# EAGLE library part NODEMCU-LOLIN-V3 (library NodeMCU v3 LOLIN)
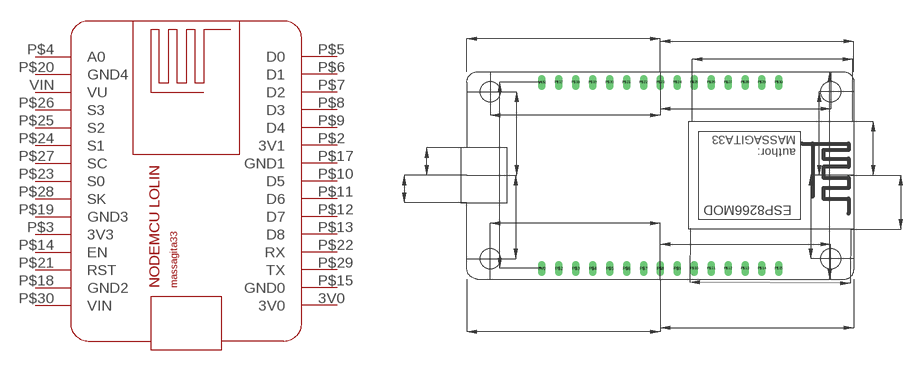
[diagram p0: symbol with the pads of NODEMCU-LOLIN-V3; footprint NODEMCU-LOLIN-V3]

Designator prefix -

## NODEMCU-LOLIN-V3  [NODEMCU-LOLIN-V3]
3V0  3V0
P$2  3V1
P$3  3V3
P$4  A0
P$5  D0
P$6  D1
P$7  D2
P$8  D3
P$9  D4
P$10  D5
P$11  D6
P$12  D7
P$13  D8
P$14  EN
P$15  GND0
P$17  GND1
P$18  GND2
P$19  GND3
P$20  GND4
P$21  RST
P$22  RX
P$23  S0
P$24  S1
P$25  S2
P$26  S3
P$27  SC
P$28  SK
P$29  TX
P$30  VIN
VIN  VU

## Footprint NODEMCU-LOLIN-V3 (pad centres in mm)
drill 0.6 long: 3V0 17.78,12.7; P$2 20.32,12.7; P$3 22.86,12.7; P$4 25.4,12.7; P$5 27.94,12.7; P$6 30.48,12.7; P$7 33.02,12.7; P$8 35.56,12.7; P$9 38.1,12.7; P$10 40.64,12.7; P$11 43.18,12.7; P$12 45.72,12.7; P$13 48.26,12.7; P$14 50.8,12.7; P$15 53.34,12.7; P$17 20.32,40.64; P$18 22.86,40.64; P$19 25.4,40.64; P$20 27.94,40.64; P$21 30.48,40.64; P$22 33.02,40.64; P$23 35.56,40.64; P$24 38.1,40.64; P$25 40.64,40.64; P$26 43.18,40.64; P$27 45.72,40.64; P$28 48.26,40.64; P$29 50.8,40.64; P$30 53.34,40.64; VIN 17.78,40.64
hole 3 at 10.001,39.211
hole 3 at 61.119,39.211
hole 3 at 61.119,14.129
hole 3 at 10.001,14.129